# Altium footprint library ConnectorGPIO_Sullins_PPTC061LGBN-RC_6-pos.PcbLib: 1 footprints
Each footprint in its own frame and in the unit in brackets; x right, y up, seen from the top. Pads: shape width x height; smd on the part's side, far side on the other; paste and mask are expansions set on the pad; w line width, h text height; cw(c..) or ccw(c..) is an arc to the next point about the centre after c.
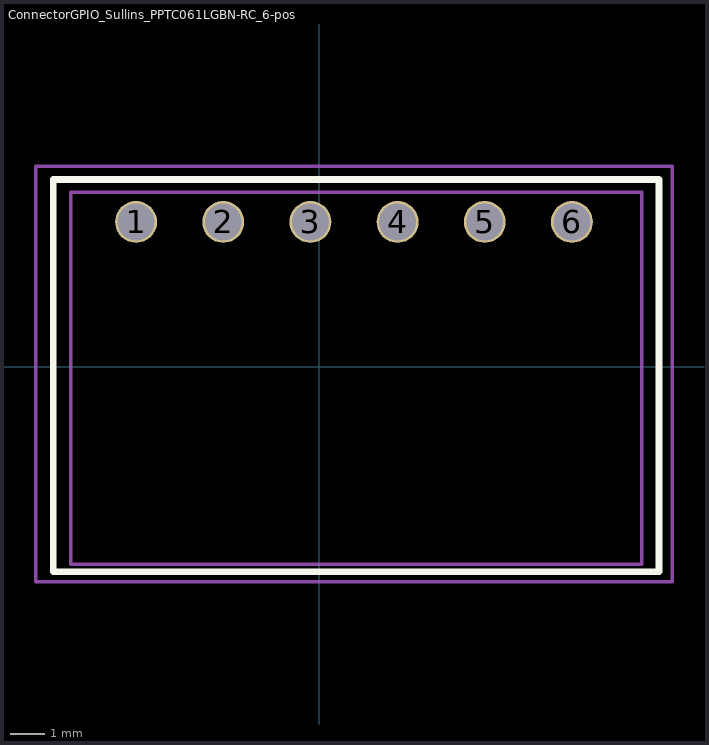
[diagram p0: the footprint, top view; thin cyan lines are the x and y axes]

## ConnectorGPIO_Sullins_PPTC061LGBN-RC_6-pos [mm]
height 6.09
pads (6):
  round 1.22 hole 1.07: 1(-5.334,4.222) 2(-2.794,4.222) 3(-0.254,4.222) 4(2.286,4.222) 5(4.826,4.222) 6(7.366,4.222)
Top Overlay:
  lines w0.2: -7.747,-5.969 -7.747,5.461 9.906,5.461 9.906,-5.969 -7.747,-5.969
Mechanical 13:
  lines w0.1: -7.239,-5.747 -7.239,5.089 9.398,5.089 9.398,-5.747 -7.239,-5.747
Mechanical 15:
  lines w0.1: -8.255,-6.258 -8.255,5.842 10.287,5.842 10.287,-6.258 -8.255,-6.258
3D body: height 6.09, standoff 0, extent -7.239,-5.715 9.398,5.08